# Altium footprint library YaoPCB.PCBLIB: 415 footprints (part 4 of 26)
Each footprint in its own frame and in the unit in brackets; x right, y up, seen from the top. Pads: shape width x height; smd on the part's side, far side on the other; paste and mask are expansions set on the pad; w line width, h text height; cw(c..) or ccw(c..) is an arc to the next point about the centre after c.
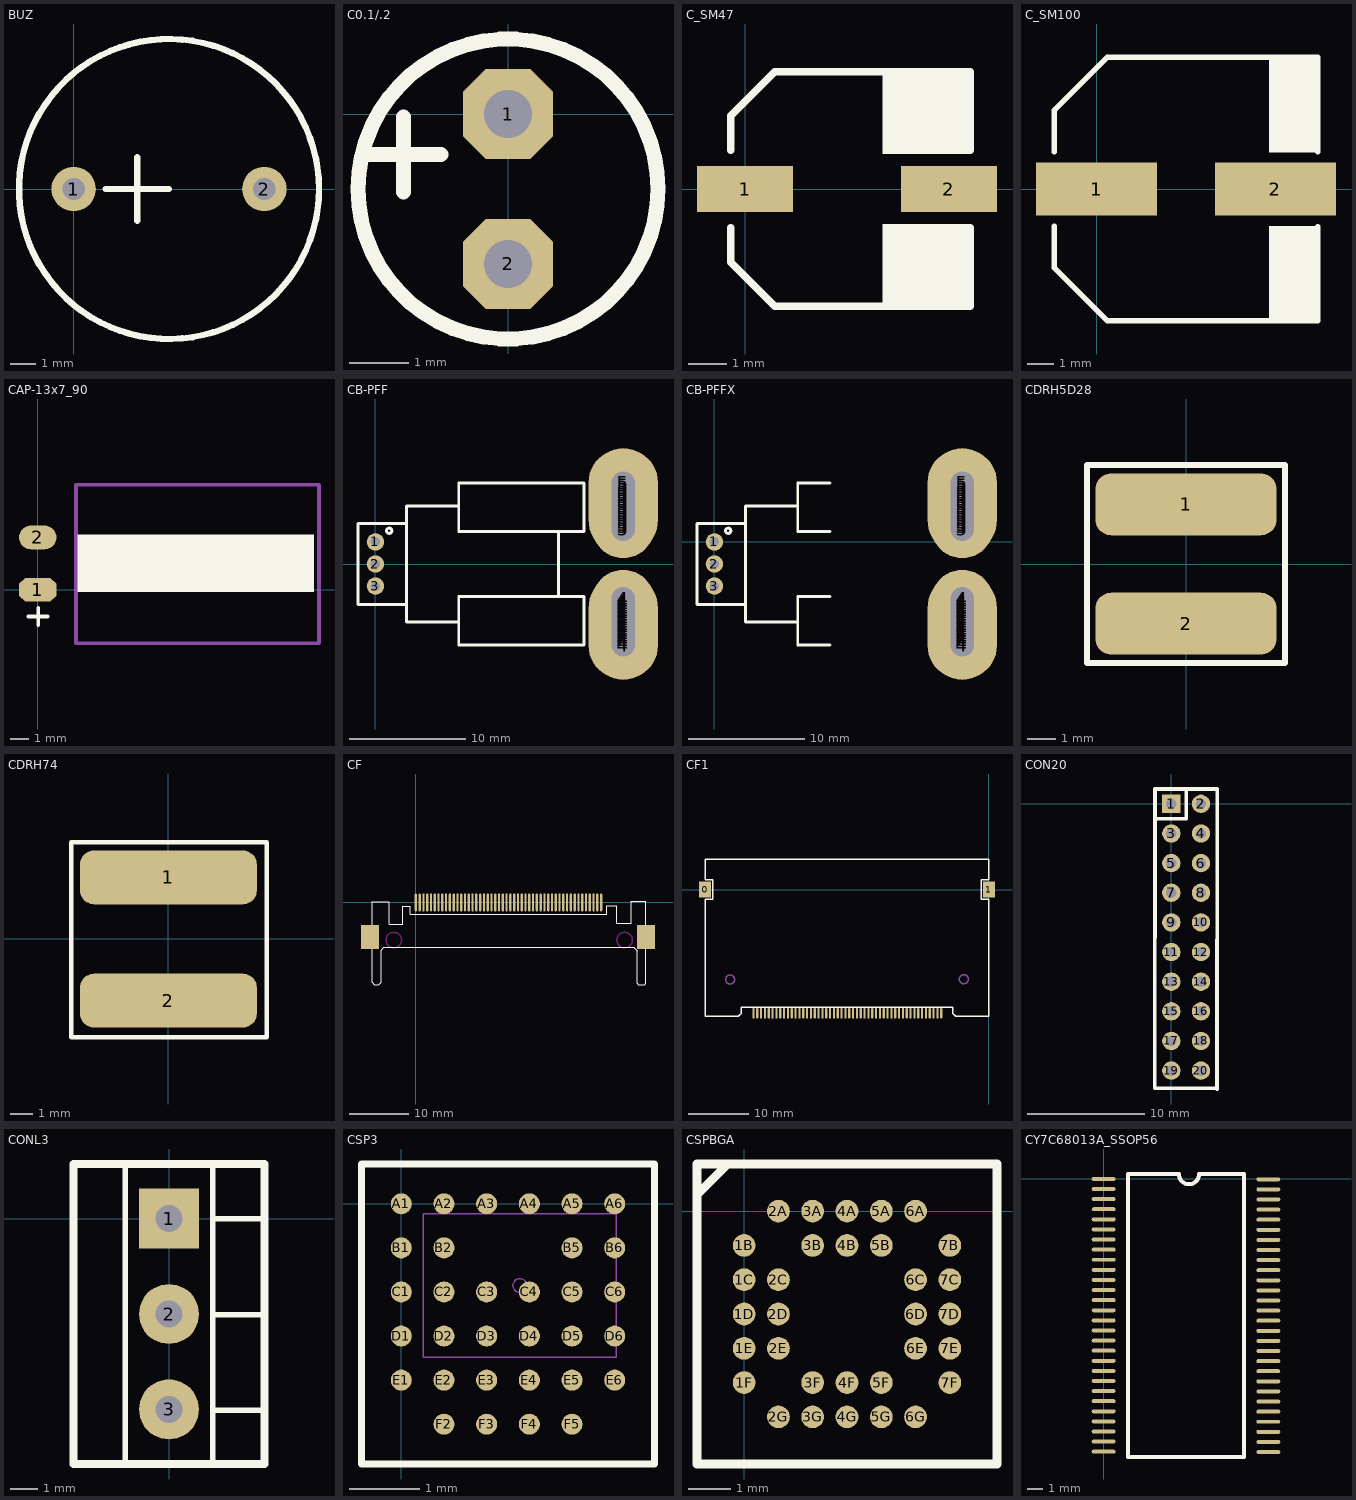
[diagram p3: the footprints below, top view; thin cyan lines are the x and y axes]

## BUZ [mil]
pads (2):
  round 70 hole 35: 1(0,0) 2(300,0)
TopOverlay:
  circle w10: c150,0 r236
  lines w10: 50,0 150,0 ; 100,-50 100,50

## C0.1/.2 [mil]
pads (2):
  oct 60x60 hole 32: 1(0,0) 2(0,-100)
TopOverlay:
  circle w10: c0,-50 r100
  lines w10: -94.69,-27.17 -44.69,-27.17 ; -69.69,-52.17 -69.69,-2.17

## C_SM47 [mm]
pads (2):
  rect 2.5x1.2 smd: 1(0,0) 2(5.296,0)
TopOverlay:
  region: 5.85,3.048 3.564,3.048 3.564,0.915 5.85,0.915
  region: 5.85,-0.914 3.564,-0.914 3.564,-3.048 5.85,-3.048
  lines w0.203: -0.373,-1.016 -0.373,-1.905 0.77,-3.048 5.799,-3.048 ; -0.373,1.016 -0.373,1.905 0.77,3.048 5.85,3.048 5.85,1.016 ; 5.85,-3.048 5.85,-1.016

## C_SM100 [mm]
pads (2):
  rect 4.6x2 smd: 1(0,0) 2(6.8,0)
TopOverlay:
  rectangle: 6.56,-5 8.4,-1.41
  rectangle: 6.56,1.39 8.4,5
  lines w0.2: -1.6,-3 0.4,-5 ; -1.6,3 0.4,5
  lines w0.203: -1.6,-3 -1.6,-1.41 ; -1.6,1.42 -1.6,3 ; 0.4,-5 8.4,-5 8.4,-1.43 ; 0.4,5 8.4,5 8.4,1.41

## CAP-13x7_90 [mm]
pads (2):
  oct 2x1.27 smd: 1(0,0)
  oval 2x1.27 smd: 2(0,2.8)
TopOverlay:
  rectangle: 2.12,-0.12 14.78,2.95
  lines w0.2: -0.51,-1.425 0.54,-1.425 ; 0.03,-1.895 0.03,-0.955
Mechanical15:
  lines w0.2: 2.045,-2.865 15.045,-2.865 15.045,5.625 2.045,5.625 2.045,-2.865

## CB-PFF [mm]
pads (45):
  round 1.5 hole 0.8: 1(0,1.91) 2(0,0) 3(0,-1.91)
  round 6 hole 1.986: 4(21.4,-7) 4(21.4,-6.8) 4(21.4,-6.6) 4(21.4,-6.4) 4(21.4,-6.2) 4(21.4,-6) 4(21.4,-5.8) 4(21.4,-5.6) 4(21.4,-5.4) 4(21.4,-5.2) 4(21.4,-5) 4(21.4,-4.8) 4(21.4,-4.6) 4(21.4,-4.4) 4(21.4,-4.2) 4(21.4,-4) 4(21.4,-3.8) 5(21.4,3.8) 5(21.4,4) 5(21.4,4.2) 5(21.4,4.4) 5(21.4,4.6) 5(21.4,4.8) 5(21.4,5) 5(21.4,5.2) 5(21.4,5.4) 5(21.4,5.6) 5(21.4,5.8) 5(21.4,6) 5(21.4,6.2) 5(21.4,6.4) 5(21.4,6.6) 5(21.4,6.8) 5(21.4,7)
  round 5.8 hole 1.986: 4(21.4,-3.6) 5(21.4,3.6)
  round 5.6 hole 1.986: 4(21.4,-3.4) 5(21.4,3.4)
  round 5.4 hole 1.986: 4(21.4,-3.2) 5(21.4,3.2)
  round 5 hole 1.986: 4(21.4,-3) 5(21.4,3)
TopOverlay:
  circle w0.254: c1.195,2.87 r0.227
  lines w0.254: 2.7,-3.5 -1.5,-3.5 -1.5,3.5 2.7,3.5 ; 7.2,-5 2.7,-5 2.7,5 7.2,5 ; 15.8,-2.8 15.8,2.8 ; 7.2,-7 7.2,-2.8 18,-2.8 18,-7 7.2,-7 ; 7.2,2.8 7.2,7 18,7 18,2.8 7.2,2.8

## CB-PFFX [mm]
pads (45):
  round 1.5 hole 0.8: 1(0,0) 2(0,-1.91) 3(0,-3.82)
  round 6 hole 1.986: 4(21.4,-8.91) 4(21.4,-8.71) 4(21.4,-8.51) 4(21.4,-8.31) 4(21.4,-8.11) 4(21.4,-7.91) 4(21.4,-7.71) 4(21.4,-7.51) 4(21.4,-7.31) 4(21.4,-7.11) 4(21.4,-6.91) 4(21.4,-6.71) 4(21.4,-6.51) 4(21.4,-6.31) 4(21.4,-6.11) 4(21.4,-5.91) 4(21.4,-5.71) 5(21.4,1.89) 5(21.4,2.09) 5(21.4,2.29) 5(21.4,2.49) 5(21.4,2.69) 5(21.4,2.89) 5(21.4,3.09) 5(21.4,3.29) 5(21.4,3.49) 5(21.4,3.69) 5(21.4,3.89) 5(21.4,4.09) 5(21.4,4.29) 5(21.4,4.49) 5(21.4,4.69) 5(21.4,4.89) 5(21.4,5.09)
  round 5.8 hole 1.986: 4(21.4,-5.51) 5(21.4,1.69)
  round 5.6 hole 1.986: 4(21.4,-5.31) 5(21.4,1.49)
  round 5.4 hole 1.986: 4(21.4,-5.11) 5(21.4,1.29)
  round 5 hole 1.986: 4(21.4,-4.91) 5(21.4,1.09)
TopOverlay:
  circle w0.254: c1.195,0.96 r0.227
  lines w0.254: 2.7,-5.41 -1.5,-5.41 -1.5,1.59 2.7,1.59 ; 7.2,-6.91 2.7,-6.91 2.7,3.09 7.2,3.09 ; 10,-8.91 7.2,-8.91 7.2,-4.71 10,-4.71 ; 10,0.89 7.2,0.89 7.2,5.09 10,5.09

## CDRH5D28 [mm]
pads (2):
  rrect50% 6.3x2.15 smd: 1(0,2.075) 2(0,-2.075)
TopOverlay:
  lines w0.2: -3.45,-3.45 -3.45,3.45 3.45,3.45 3.45,-3.45 -3.45,-3.45

## CDRH74 [mm]
pads (2):
  rrect50% 7.9x2.4 smd: 1(0,2.75) 2(0,-2.755)
TopOverlay:
  lines w0.2: -4.34,-4.39 4.39,-4.39 4.39,4.33 -4.34,4.33 -4.34,-4.39

## CF [mm]
pads (52):
  oval 0.382x3 smd: 1(0,0) 2(1.268,0) 3(2.536,0) 4(3.804,0) 5(5.072,0) 6(6.34,0) 7(7.608,0) 8(8.876,0) 9(10.144,0) 10(11.412,0) 11(12.68,0) 12(13.948,0) 13(15.216,0) 14(16.484,0) 15(17.752,0) 16(19.02,0) 17(20.288,0) 18(21.556,0) 19(22.824,0) 20(24.092,0) 21(25.36,0) 22(26.628,0) 23(27.896,0) 24(29.164,0) 25(30.432,0) 26(0.634,0) 27(1.902,0) 28(3.17,0) 29(4.438,0) 30(5.706,0) 31(6.974,0) 32(8.242,0) 33(9.51,0) 34(10.778,0) 35(12.046,0) 36(13.314,0) 37(14.582,0) 38(15.85,0) 39(17.118,0) 40(18.386,0) 41(19.654,0) 42(20.922,0) 43(22.19,0) 44(23.458,0) 45(24.726,0) 46(25.994,0) 47(27.262,0) 48(28.53,0) 49(29.798,0) 50(31.066,0)
  rect 3x4 smd: ""(-7.7,-5.81) ""(38.6,-5.81)
TopOverlay:
  lines w0.2: -7.315,-13.406 -6.96,-13.761 -6.223,-13.761 -5.842,-13.38 -5.842,-12.694 -5.842,-8.732 -5.842,-7.992 -5.4,-7.55 36.5,-7.55 37.084,-8.134 37.084,-8.63 37.084,-13.533 37.313,-13.761 38.354,-13.761 38.532,-13.583 38.532,0.158 36.093,0.158 36.093,-3.5 33.68,-3.5 33.68,-0.528 32.029,-0.528 32.029,-1.976 -0.94,-1.976 -0.94,-0.655 -2.235,-0.655 -2.235,-3.627 -4.42,-3.627 -4.42,0.133 -7.315,0.133 -7.315,-5.506 -7.315,-12.974 -7.315,-13.406
KeepOutLayer:
  circle w0.254: c-3.7,-6.31 r1.3
  circle w0.254: c35,-6.31 r1.3

## CF1 [mil]
pads (52):
  rect 78.74x106.3 smd: 0(-1850.39,0) 1(0,0)
  oval 13.94x70 smd: 1(-1535.39,-806.77) 2(-1485.39,-806.77) 3(-1435.39,-806.77) 4(-1385.39,-806.77) 5(-1335.39,-806.77) 6(-1285.39,-806.77) 7(-1235.39,-806.77) 8(-1185.39,-806.77) 9(-1135.39,-806.77) 10(-1085.39,-806.77) 11(-1035.39,-806.77) 12(-985.39,-806.77) 13(-935.39,-806.77) 14(-885.39,-806.77) 15(-835.39,-806.77) 16(-785.39,-806.77) 17(-735.39,-806.77) 18(-685.39,-806.77) 19(-635.39,-806.77) 20(-585.39,-806.77) 21(-535.39,-806.77) 22(-485.39,-806.77) 23(-435.39,-806.77) 24(-385.39,-806.77) 25(-335.39,-806.77) 26(-1510.39,-806.77) 27(-1460.39,-806.77) 28(-1410.39,-806.77) 29(-1360.39,-806.77) 30(-1310.39,-806.77) 31(-1260.39,-806.77) 32(-1210.39,-806.77) 33(-1160.39,-806.77) 34(-1110.39,-806.77) 35(-1060.39,-806.77) 36(-1010.39,-806.77) 37(-960.39,-806.77) 38(-910.39,-806.77) 39(-860.39,-806.77) 40(-810.39,-806.77) 41(-760.39,-806.77) 42(-710.39,-806.77) 43(-660.39,-806.77) 44(-610.39,-806.77) 45(-560.39,-806.77) 46(-510.39,-806.77) 47(-460.39,-806.77) 48(-410.39,-806.77) 49(-360.39,-806.77) 50(-310.39,-806.77)
TopOverlay:
  lines w10: -1850.39,-826.77 -1850.39,-62.99 -1801.18,-62.99 -1801.18,64.96 -1850.39,64.96 -1850.39,196.85 0,196.85 0,62.99 -49.21,62.99 -49.21,-62.99 0,-62.99 0,-826.77 -216.54,-826.77 -236.22,-807.09 -236.22,-767.72 -1614.17,-767.72 -1614.17,-807.09 -1633.86,-826.77 -1850.39,-826.77
Mechanical1:
  circle w10: c-163.39,-584.65 r29.53
  circle w10: c-1687.01,-586.61 r29.53

## CON20 [mil]
pads (20):
  rect 62x62 hole 35: 1(0,0)
  round 62 hole 35: 2(100,0) 3(0,-100) 4(100,-100) 5(0,-200) 6(100,-200) 7(0,-300) 8(100,-300) 9(0,-400) 10(100,-400) 11(0,-500) 12(100,-500) 13(0,-600) 14(100,-600) 15(0,-700) 16(100,-700) 17(0,-800) 18(100,-800) 19(0,-900) 20(100,-900)
TopOverlay:
  lines w12: -56,-959 -55,50 150,50 ; -50,-960 150,-960 ; -50,-50 50,-50 50,50 ; 154,-962 155,50

## CONL3 [mm]
pads (3):
  rect 2.2x2.2 hole 1: 1(0,0)
  round 2.2 hole 1: 2(0,-3.5) 3(0,-7)
TopOverlay:
  lines w0.2: -1.6,-9 -1.6,2 ; 1.6,-9 1.6,2 ; 1.6,-7.036 3.475,-7.036 ; 1.6,-3.531 3.5,-3.531 ; 1.6,0 3.5,0
  lines w0.305: -3.5,-9 -3.5,2 3.5,2 3.5,-9 -3.5,-9

## CSP3 [mm]
pads (32):
  round 0.3 smd: A1(0,0) A2(0.61,0) A3(1.22,0) A4(1.83,0) A5(2.44,0) A6(3.05,0) B1(0,-0.63) B2(0.61,-0.63) B5(2.44,-0.63) B6(3.05,-0.63) C1(0,-1.26) C2(0.61,-1.26) C3(1.22,-1.26) C4(1.83,-1.26) C5(2.44,-1.26) C6(3.05,-1.26) D1(0,-1.89) D2(0.61,-1.89) D3(1.22,-1.89) D4(1.83,-1.89) D5(2.44,-1.89) D6(3.05,-1.89) E1(0,-2.52) E2(0.61,-2.52) E3(1.22,-2.52) E4(1.83,-2.52) E5(2.44,-2.52) E6(3.05,-2.52) F2(0.61,-3.15) F3(1.22,-3.15) F4(1.83,-3.15) F5(2.44,-3.15)
TopOverlay:
  lines w0.1: -0.568,-3.718 3.618,-3.718 3.618,0.568 -0.568,0.568 -0.568,-3.718
Mechanical15:
  circle w0.02: c1.695,-1.168 r0.1
  lines w0.02: 0.318,-2.19 0.318,-0.141 3.073,-0.141 3.073,-2.19 0.318,-2.19

## CSPBGA [mm]
pads (32):
  round 0.53 smd: 1B(0,-0.8) 1C(0,-1.6) 1D(0,-2.4) 1E(0,-3.2) 1F(0,-4) 2A(0.8,0) 2C(0.8,-1.6) 2D(0.8,-2.4) 2E(0.8,-3.2) 2G(0.8,-4.8) 3A(1.6,0) 3B(1.6,-0.8) 3F(1.6,-4) 3G(1.6,-4.8) 4A(2.4,0) 4B(2.4,-0.8) 4F(2.4,-4) 4G(2.4,-4.8) 5A(3.2,0) 5B(3.2,-0.8) 5F(3.2,-4) 5G(3.2,-4.8) 6A(4,0) 6C(4,-1.6) 6D(4,-2.4) 6E(4,-3.2) 6G(4,-4.8) 7B(4.8,-0.8) 7C(4.8,-1.6) 7D(4.8,-2.4) 7E(4.8,-3.2) 7F(4.8,-4)
TopOverlay:
  lines w0.2: -1.1,0.381 -0.381,1.1 ; -1.1,-5.9 5.9,-5.9 5.9,1.1 -1.1,1.1 -1.1,-5.9

## CY7C68013A_SSOP56 [mm]
pads (56):
  oval 1.5x0.25 smd: 1(0,0) 2(0,-0.635) 3(0,-1.27) 4(0,-1.905) 5(0,-2.54) 6(0,-3.175) 7(0,-3.81) 8(0,-4.445) 9(0,-5.08) 10(0,-5.715) 11(0,-6.35) 12(0,-6.985) 13(0,-7.62) 14(0,-8.255) 15(0,-8.89) 16(0,-9.525) 17(0,-10.16) 18(0,-10.795) 19(0,-11.43) 20(0,-12.065) 21(0,-12.7) 22(0,-13.335) 23(0,-13.97) 24(0,-14.605) 25(0,-15.24) 26(0,-15.875) 27(0,-16.51) 28(0,-17.145) 29(10.351,-17.167) 30(10.351,-16.532) 31(10.351,-15.897) 32(10.351,-15.262) 33(10.351,-14.627) 34(10.351,-13.992) 35(10.351,-13.357) 36(10.351,-12.722) 37(10.351,-12.087) 38(10.351,-11.452) 39(10.351,-10.817) 40(10.351,-10.182) 41(10.351,-9.547) 42(10.351,-8.912) 43(10.351,-8.277) 44(10.351,-7.642) 45(10.351,-7.007) 46(10.351,-6.372) 47(10.351,-5.737) 48(10.351,-5.102) 49(10.351,-4.467) 50(10.351,-3.832) 51(10.351,-3.197) 52(10.351,-2.562) 53(10.351,-1.927) 54(10.351,-1.292) 55(10.351,-0.657) 56(10.351,-0.022)
TopOverlay:
  lines w0.254: 4.724,0.3 1.524,0.3 1.524,-17.475 8.826,-17.475 8.826,0.3 5.994,0.303 cw(c5.359,0.303) 4.724,0.303